# Altium footprint library OKmePCBLibrary.PcbLib: 194 footprints (part 13 of 13)
Each footprint in its own frame and in the unit in brackets; x right, y up, seen from the top. Pads: shape width x height; smd on the part's side, far side on the other; paste and mask are expansions set on the pad; w line width, h text height; cw(c..) or ccw(c..) is an arc to the next point about the centre after c.
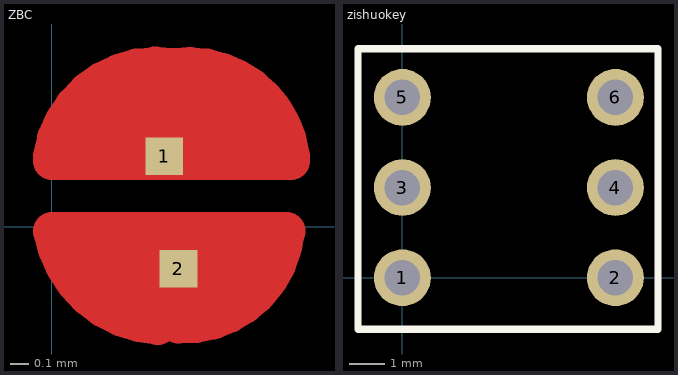
[diagram p12: the footprints below, top view; thin cyan lines are the x and y axes]

## ZBC [mm]
pads (2):
  rect 0.2x0.2 smd: 1(0.6,0.375) 2(0.675,-0.225)
Top Layer:
  region: 0,0 1.25,0 1.25,-0.25 0.975,-0.525 0.3,-0.525 0,-0.225
  region: 0,0.375 0.175,0.55 0.175,0.725 0.225,0.725 0.35,0.85 0.925,0.85 1.2,0.575 1.2,0.375
  lines w0.203: 0,-0.025 1.25,-0.025 ; 0,0.35 1.275,0.35 ; 0,0.375 cw(c0.563,0.287) 0.65,0.85 cw(c0.725,0.3) 1.275,0.375 ; 0.004,-0.024 ccw(c0.6,0.075) 0.564,-0.529 ; 0.675,-0.523 ccw(c0.7,0.025) 1.246,-0.025
Top Solder:
  circle w0.203: c0.625,0.2 r0.799
  region: 0.125,0.85 0.225,0.95 0.95,0.95 1.424,0.476 1.424,-0.151 1.075,-0.5 0.2,-0.5 -0.175,-0.125 -0.175,0.5 0.125,0.8
  lines w0.203: -0.175,0.2 1.424,0.2

## zishuokey [mm]
pads (6):
  round 1.6 hole 1: 1(0,0) 2(6,0) 3(0,2.54) 4(6,2.54) 5(0,5.08) 6(6,5.08)
Top Overlay:
  lines w0.203: -1.25,-1.45 -1.25,6.45 7.2,6.45 7.2,-1.45 -1.25,-1.45